# EAGLE library part OP07* (library kamiki)
OP AMP
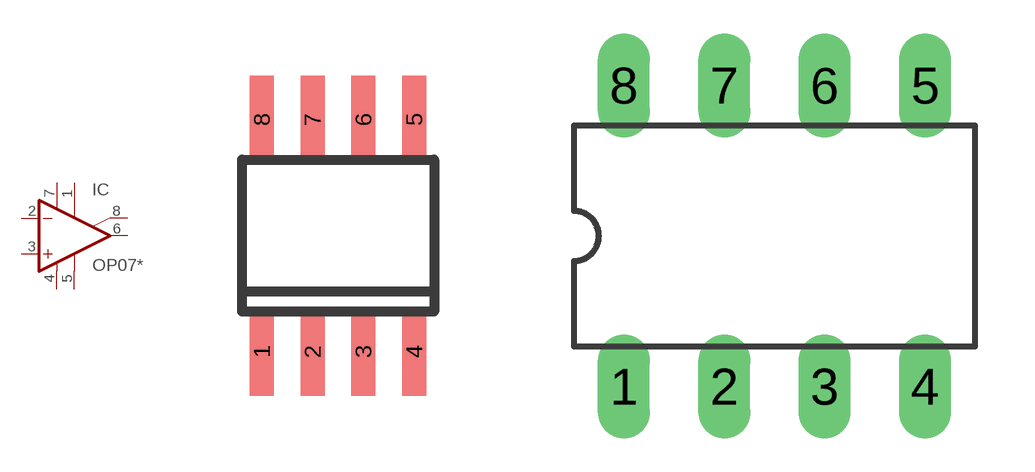
[diagram p22: symbol with the pads of SO08; footprints SO08, DIL08]

Designator prefix IC

## OP07CD  [SO08]
1  ON1  pas
2  -IN  in
3  +IN  in
4  V-  pwr
5  OPT  pas
6  OUT  out
7  V+  pwr
8  ON2  pas

## OP07P, OP07CP, OP07DP, OP07EP, OP07ZP  [DIL08]
Pads as for SO08

## Footprint SO08 (pad centres in mm)
Small Outline Package 8
smd 0.6 x 2.2: 1 -1.905,-2.9; 2 -0.635,-2.9; 3 0.635,-2.9; 4 1.905,-2.9; 5 1.905,2.9; 6 0.635,2.9; 7 -0.635,2.9; 8 -1.905,2.9

## Footprint DIL08 (pad centres in mm)
Dual In Line 8
drill 0.813 long: 1 -3.81,-3.81; 2 -1.27,-3.81; 3 1.27,-3.81; 4 3.81,-3.81; 5 3.81,3.81; 6 1.27,3.81; 7 -1.27,3.81; 8 -3.81,3.81